# Altium footprint library Switching_Regulators_Pcb.PcbLib: 18 footprints (part 1 of 2)
Each footprint in its own frame and in the unit in brackets; x right, y up, seen from the top. Pads: shape width x height; smd on the part's side, far side on the other; paste and mask are expansions set on the pad; w line width, h text height; cw(c..) or ccw(c..) is an arc to the next point about the centre after c.
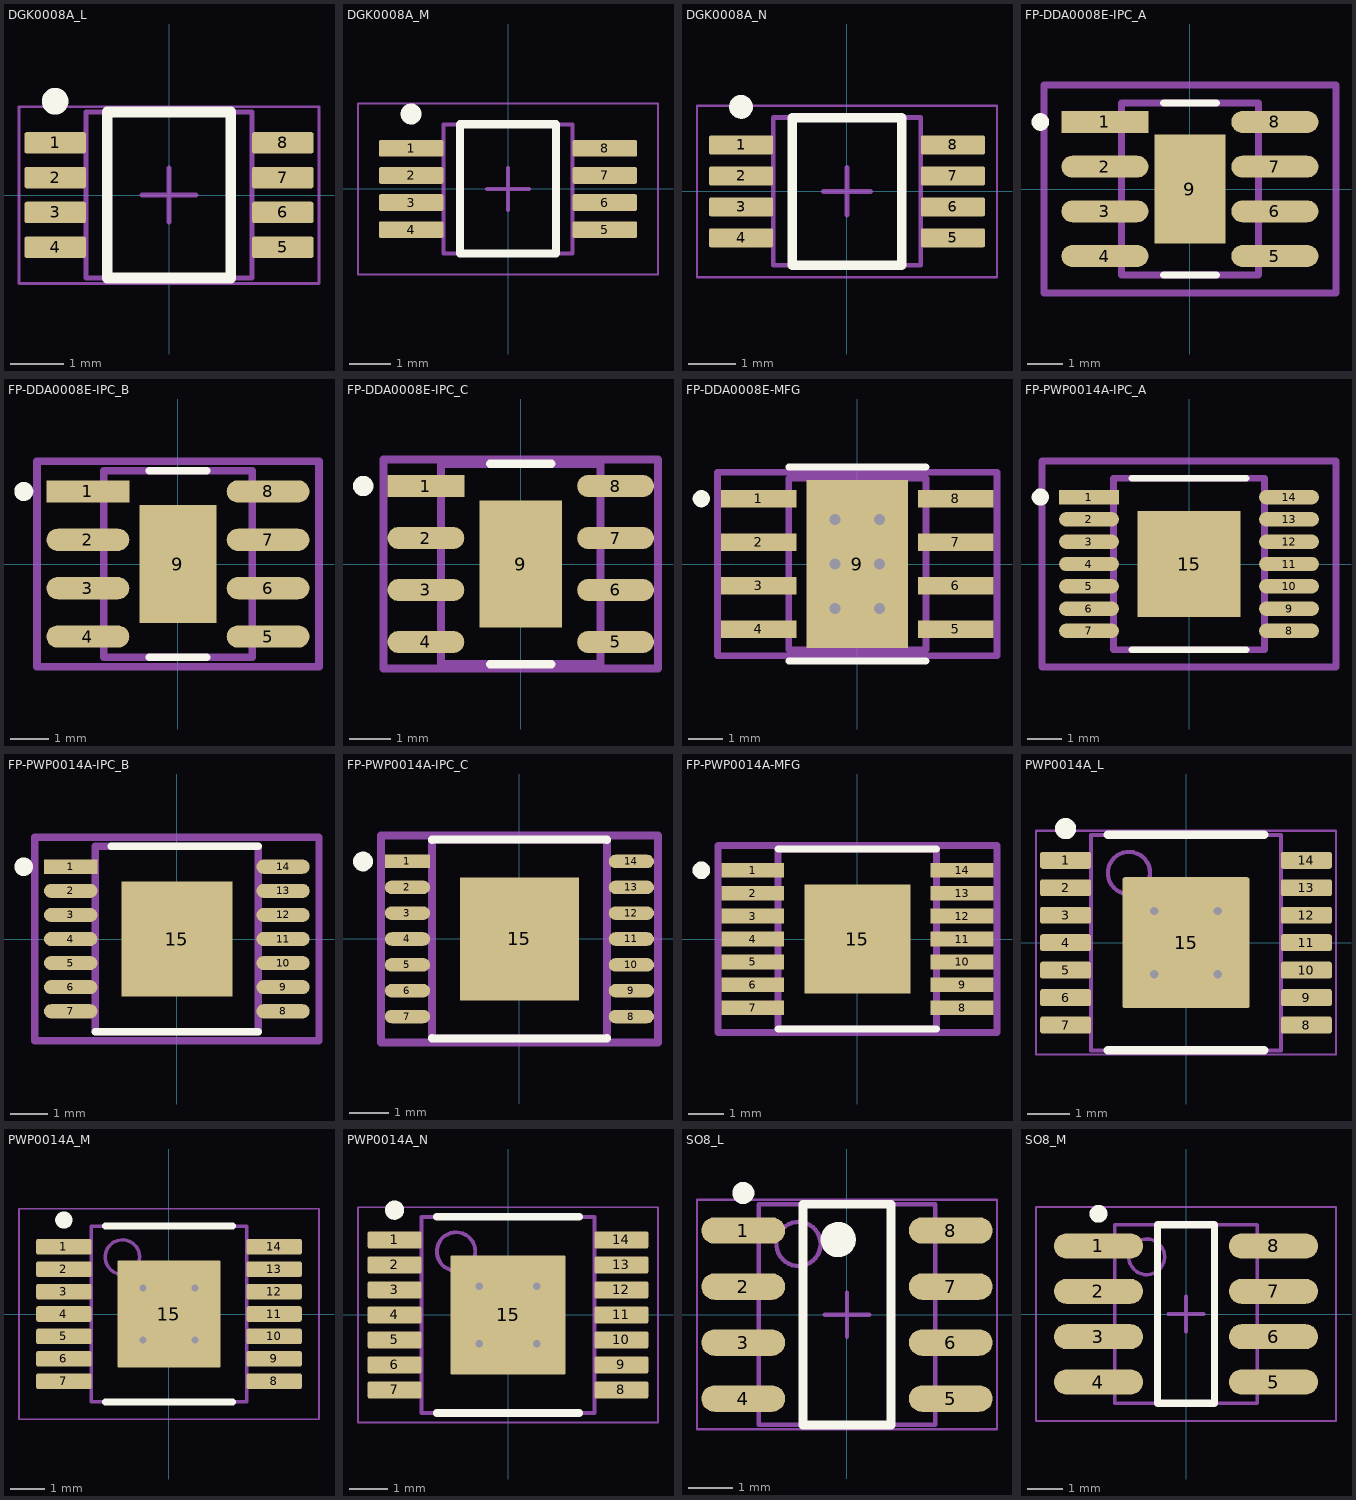
[diagram p0: the footprints below, top view; thin cyan lines are the x and y axes]

## DGK0008A_L [mm] "TSOP, 8-Leads, Body 3.1x3.1mm, Pitch 0.65mm, IPC High Density"
height 1.1
pads (8):
  rrect22% 1.15x0.4 smd: 1(-2.125,0.975) 2(-2.125,0.325) 3(-2.125,-0.325) 4(-2.125,-0.975) 5(2.125,-0.975) 6(2.125,-0.325) 7(2.125,0.325) 8(2.125,0.975)
Top Overlay:
  circle w0.25: c-2.125,1.75 r0.125
  lines w0.2: -1.15,-1.55 -1.15,1.55 1.15,1.55 1.15,-1.55 -1.15,-1.55
Mechanical 13:
  lines w0.1: -1.55,-1.55 -1.55,1.55 1.55,1.55 1.55,-1.55 -1.55,-1.55
  text ".Designator" at -1.5,-0.5 h1
Mechanical 15:
  lines w0.05: -2.8,-1.65 -2.8,1.65 2.8,1.65 2.8,-1.65 -2.8,-1.65
  lines w0.1: -0.5,0 0.5,0 ; 0,-0.5 0,0.5
3D body "MUY08A_ASM.stp": height 0.94, standoff -0.02, extent -2.451,-1.499 2.451,1.499

## DGK0008A_M [mm] "TSOP, 8-Leads, Body 3.1x3.1mm, Pitch 0.65mm, IPC Low Density"
height 1.1
pads (8):
  rrect22% 1.55x0.4 smd: 1(-2.325,0.975) 2(-2.325,0.325) 3(-2.325,-0.325) 4(-2.325,-0.975) 5(2.325,-0.975) 6(2.325,-0.325) 7(2.325,0.325) 8(2.325,0.975)
Top Overlay:
  circle w0.25: c-2.325,1.8 r0.125
  lines w0.2: -1.15,-1.55 1.15,-1.55 1.15,1.55 -1.15,1.55 -1.15,-1.55
Mechanical 13:
  lines w0.1: -1.55,-1.55 1.55,-1.55 1.55,1.55 -1.55,1.55 -1.55,-1.55
  text ".Designator" at -1.397,-0.254 h1
Mechanical 15:
  lines w0.05: -3.6,-2.05 3.6,-2.05 3.6,2.05 -3.6,2.05 -3.6,-2.05
  lines w0.1: -0.5,0 0.5,0 ; 0,-0.5 0,0.5
3D body "MUY08A_ASM.stp": height 0.94, standoff -0.02, extent -2.451,-1.499 2.451,1.499

## DGK0008A_N [mm] "TSOP, 8-Leads, Body 3.1x3.1mm, Pitch 0.65mm, IPC Medium Density"
height 1.1
pads (8):
  rrect22% 1.35x0.4 smd: 1(-2.225,0.975) 2(-2.225,0.325) 3(-2.225,-0.325) 4(-2.225,-0.975) 5(2.225,-0.975) 6(2.225,-0.325) 7(2.225,0.325) 8(2.225,0.975)
Top Overlay:
  circle w0.25: c-2.225,1.775 r0.125
  lines w0.2: -1.15,-1.55 -1.15,1.55 1.15,1.55 1.15,-1.55 -1.15,-1.55
Mechanical 13:
  lines w0.1: -1.55,-1.55 -1.55,1.55 1.55,1.55 1.55,-1.55 -1.55,-1.55
  text ".Designator" at -1.397,-0.254 h1
Mechanical 15:
  lines w0.05: -3.15,-1.8 -3.15,1.8 3.15,1.8 3.15,-1.8 -3.15,-1.8
  lines w0.1: -0.5,0 0.5,0 ; 0,-0.5 0,0.5
3D body "MUY08A_ASM.stp": height 0.94, standoff -0.02, extent -2.451,-1.499 2.451,1.499

## FP-DDA0008E-IPC_A [mm]
pads (9):
  rect 2.474x0.622 smd paste+0 mask+0: 1(-2.416,1.905)
  rrect100% 2.474x0.622 smd paste+0 mask+0: 2(-2.416,0.635) 3(-2.416,-0.635) 4(-2.416,-1.905) 5(2.416,-1.905) 6(2.416,-0.635) 7(2.416,0.635) 8(2.416,1.905)
  rect 2.025x3.1 smd paste-1000 mask+0: 9(0,0)
Top Overlay:
  circle w0.25: c-4.25,1.905 r0.125
  lines w0.2: -0.75,-2.45 0.75,-2.45 ; -0.75,2.45 0.75,2.45
Top Paste:
  rectangle: -0.568,-1.105 0.568,1.105
Mechanical 5:
  lines w0.2: -4.153,-2.95 -4.153,2.95 4.153,2.95 4.153,-2.95 -4.153,-2.95
  text ".Designator" at 0,-0.001 h1
Mechanical 13:
  lines w0.2: -1.95,-2.45 -1.95,2.45 1.95,2.45 1.95,-2.45 -1.95,-2.45
Mechanical 15:
  lines w0.2: -4.153,-2.95 -4.153,2.95 4.153,2.95 4.153,-2.95 -4.153,-2.95
Mechanical 16:
  lines w0.1: -0.5,0 0.5,0 -0.5,0 ; 0,-0.5 0,0.5 0,-0.5
3D body "IC_Texas_Instruments_LM5164DDAR_eec.STEP": height 0.25, standoff 0, extent -4.153,-2.95 4.153,2.95

## FP-DDA0008E-IPC_B [mm]
pads (9):
  rect 2.174x0.582 smd paste+0 mask+0: 1(-2.366,1.905)
  rrect100% 2.174x0.582 smd paste+0 mask+0: 2(-2.366,0.635) 3(-2.366,-0.635) 4(-2.366,-1.905) 5(2.366,-1.905) 6(2.366,-0.635) 7(2.366,0.635) 8(2.366,1.905)
  rect 2.025x3.1 smd paste-1000 mask+0: 9(0,0)
Top Overlay:
  circle w0.25: c-4.05,1.905 r0.125
  lines w0.2: -0.75,-2.45 0.75,-2.45 ; -0.75,2.45 0.75,2.45
Top Paste:
  rectangle: -0.568,-1.105 0.568,1.105
Mechanical 5:
  lines w0.2: -3.703,-2.7 3.703,-2.7 3.703,2.7 -3.703,2.7 -3.703,-2.7
  text ".Designator" at 0,-0.001 h1
Mechanical 13:
  lines w0.2: -1.95,-2.45 1.95,-2.45 1.95,2.45 -1.95,2.45 -1.95,-2.45
Mechanical 15:
  lines w0.2: -3.703,-2.7 3.703,-2.7 3.703,2.7 -3.703,2.7 -3.703,-2.7
Mechanical 16:
  lines w0.1: -0.5,0 0.5,0 -0.5,0 ; 0,-0.5 0,0.5 0,-0.5
3D body "IC_Texas_Instruments_LM5164DDAR_eec.STEP": height 0.25, standoff 0, extent -3.703,-2.7 3.703,2.7

## FP-DDA0008E-IPC_C [mm]
pads (9):
  rect 1.874x0.542 smd paste+0 mask+0: 1(-2.316,1.905)
  rrect100% 1.874x0.542 smd paste+0 mask+0: 2(-2.316,0.635) 3(-2.316,-0.635) 4(-2.316,-1.905) 5(2.316,-1.905) 6(2.316,-0.635) 7(2.316,0.635) 8(2.316,1.905)
  rect 2.025x3.1 smd paste-1000 mask+0: 9(0,0)
Top Overlay:
  circle w0.25: c-3.85,1.905 r0.125
  lines w0.2: -0.75,-2.45 0.75,-2.45 ; -0.75,2.45 0.75,2.45
Top Paste:
  rectangle: -0.568,-1.105 0.568,1.105
Mechanical 5:
  lines w0.2: -3.353,-2.55 3.353,-2.55 3.353,2.55 -3.353,2.55 -3.353,-2.55
  text ".Designator" at 0,-0.001 h1
Mechanical 13:
  lines w0.2: -1.95,-2.45 1.95,-2.45 1.95,2.45 -1.95,2.45 -1.95,-2.45
Mechanical 15:
  lines w0.2: -3.353,-2.55 3.353,-2.55 3.353,2.55 -3.353,2.55 -3.353,-2.55
Mechanical 16:
  lines w0.1: -0.5,0 0.5,0 -0.5,0 ; 0,-0.5 0,0.5 0,-0.5
3D body "IC_Texas_Instruments_LM5164DDAR_eec.STEP": height 0.25, standoff 0, extent -3.353,-2.55 3.353,2.55

## FP-DDA0008E-MFG [mm]
pads (9):
  rect 2.2x0.5 smd paste-1000 mask+0: 1(-2.875,1.905) 2(-2.875,0.635) 3(-2.875,-0.635) 4(-2.875,-1.905) 5(2.875,-1.905) 6(2.875,-0.635) 7(2.875,0.635) 8(2.875,1.905)
  rect 2.95x4.9 smd paste-1000 mask-1000: 9(0,0)
via -0.65,1.3 diameter 0.63 hole 0.33
via -0.65,0 diameter 0.63 hole 0.33
via -0.65,-1.3 diameter 0.63 hole 0.33
via 0.65,1.3 diameter 0.63 hole 0.33
via 0.65,0 diameter 0.63 hole 0.33
via 0.65,-1.3 diameter 0.63 hole 0.33
Top Overlay:
  circle w0.25: c-4.55,1.905 r0.125
  lines w0.2: -2,-2.825 2,-2.825 ; -2,2.825 2,2.825
Top Paste:
  rectangle: -1.2,-1.55 1.2,1.55
  rectangle: -3.95,1.68 -1.8,2.13
  rectangle: -3.95,0.41 -1.8,0.86
  rectangle: -3.95,-0.86 -1.8,-0.41
  rectangle: -3.95,-2.13 -1.8,-1.68
  rectangle: 1.8,1.68 3.95,2.13
  rectangle: 1.8,0.41 3.95,0.86
  rectangle: 1.8,-0.86 3.95,-0.41
  rectangle: 1.8,-2.13 3.95,-1.68
Top Solder:
  rectangle: -1.2,-1.55 1.2,1.55
Mechanical 5:
  lines w0.2: -4.075,-2.675 4.075,-2.675 4.075,2.675 -4.075,2.675 -4.075,-2.675
  text ".Designator" at 0,0.188 h1
Mechanical 13:
  lines w0.2: -2,-2.5 2,-2.5 2,2.5 -2,2.5 -2,-2.5
Mechanical 15:
  lines w0.2: -4.075,-2.675 4.075,-2.675 4.075,2.675 -4.075,2.675 -4.075,-2.675
3D body "IC_Texas_Instruments_TPS54360BQDDARQ1_eec.STEP": height 0.25, standoff 0, extent -4.075,-2.675 4.075,2.675

## FP-PWP0014A-IPC_A [mm]
pads (15):
  rect 1.74x0.421 smd paste+0 mask+0: 1(-2.916,1.95)
  rrect100% 1.74x0.421 smd paste+0 mask+0: 2(-2.916,1.3) 3(-2.916,0.65) 4(-2.916,0) 5(-2.916,-0.65) 6(-2.916,-1.3) 7(-2.916,-1.95) 8(2.916,-1.95) 9(2.916,-1.3) 10(2.916,-0.65) 11(2.916,0) 12(2.916,0.65) 13(2.916,1.3) 14(2.916,1.95)
  rect 3x3.1 smd paste-1000 mask+0: 15(0,0)
Top Overlay:
  circle w0.25: c-4.335,1.95 r0.125
  lines w0.2: -1.671,-2.5 1.671,-2.5 ; -1.671,2.5 1.671,2.5
Top Paste:
  rectangle: -0.94,-0.99 0.94,0.99
Mechanical 5:
  lines w0.2: -4.285,-3 4.285,-3 4.285,3 -4.285,3 -4.285,-3
  text ".Designator" at 0,-0.001 h1
Mechanical 13:
  lines w0.2: -2.2,-2.5 2.2,-2.5 2.2,2.5 -2.2,2.5 -2.2,-2.5
Mechanical 15:
  lines w0.2: -4.285,-3 4.285,-3 4.285,3 -4.285,3 -4.285,-3
Mechanical 16:
  lines w0.1: -0.5,0 0.5,0 ; 0,-0.5 0,0.5
3D body "IC_Texas_Instruments_LM5161PWPR_eec.STEP": height 0.25, standoff 0, extent -4.285,-3 4.285,3

## FP-PWP0014A-IPC_B [mm]
pads (15):
  rect 1.44x0.381 smd paste+0 mask+0: 1(-2.866,1.95)
  rrect100% 1.44x0.381 smd paste+0 mask+0: 2(-2.866,1.3) 3(-2.866,0.65) 4(-2.866,0) 5(-2.866,-0.65) 6(-2.866,-1.3) 7(-2.866,-1.95) 8(2.866,-1.95) 9(2.866,-1.3) 10(2.866,-0.65) 11(2.866,0) 12(2.866,0.65) 13(2.866,1.3) 14(2.866,1.95)
  rect 3x3.1 smd paste-1000 mask+0: 15(0,0)
Top Overlay:
  circle w0.25: c-4.135,1.95 r0.125
  lines w0.2: -2.2,-2.5 2.2,-2.5 ; -1.771,2.5 2.2,2.5
Top Paste:
  rectangle: -0.94,-0.99 0.94,0.99
Mechanical 5:
  lines w0.2: -3.835,-2.75 -3.835,2.75 3.835,2.75 3.835,-2.75 -3.835,-2.75
  text ".Designator" at 0,-0.001 h1
Mechanical 13:
  lines w0.2: -2.2,-2.5 -2.2,2.5 2.2,2.5 2.2,-2.5 -2.2,-2.5
Mechanical 15:
  lines w0.2: -3.835,-2.75 -3.835,2.75 3.835,2.75 3.835,-2.75 -3.835,-2.75
Mechanical 16:
  lines w0.1: -0.5,0 0.5,0 ; 0,-0.5 0,0.5
3D body "IC_Texas_Instruments_LM5161PWPR_eec.STEP": height 0.25, standoff 0, extent -3.835,-2.75 3.835,2.75

## FP-PWP0014A-IPC_C [mm]
pads (15):
  rect 1.14x0.341 smd paste+0 mask+0: 1(-2.816,1.95)
  rrect100% 1.14x0.341 smd paste+0 mask+0: 2(-2.816,1.3) 3(-2.816,0.65) 4(-2.816,0) 5(-2.816,-0.65) 6(-2.816,-1.3) 7(-2.816,-1.95) 8(2.816,-1.95) 9(2.816,-1.3) 10(2.816,-0.65) 11(2.816,0) 12(2.816,0.65) 13(2.816,1.3) 14(2.816,1.95)
  rect 3x3.1 smd paste-1000 mask+0: 15(0,0)
Top Overlay:
  circle w0.25: c-3.935,1.95 r0.125
  lines w0.2: -2.2,-2.495 -2.2,-2.5 2.2,-2.5 2.2,-2.495 ; -2.2,2.495 -2.2,2.5 2.2,2.5 2.2,2.495
Top Paste:
  rectangle: -0.94,-0.99 0.94,0.99
Mechanical 5:
  lines w0.2: -3.485,-2.6 -3.485,2.6 3.485,2.6 3.485,-2.6 -3.485,-2.6
  text ".Designator" at 0,-0.001 h1
Mechanical 13:
  lines w0.2: -2.2,-2.5 -2.2,2.5 2.2,2.5 2.2,-2.5 -2.2,-2.5
Mechanical 15:
  lines w0.2: -3.485,-2.6 -3.485,2.6 3.485,2.6 3.485,-2.6 -3.485,-2.6
Mechanical 16:
  lines w0.1: -0.5,0 0.5,0 ; 0,-0.5 0,0.5
3D body "IC_Texas_Instruments_LM5161PWPR_eec.STEP": height 0.25, standoff 0, extent -3.485,-2.6 3.485,2.6

## FP-PWP0014A-MFG [mm]
pads (15):
  rect 1.78x0.42 smd paste+0 mask+0: 1(-2.97,1.95) 2(-2.97,1.3) 3(-2.97,0.65) 4(-2.97,0) 5(-2.97,-0.65) 6(-2.97,-1.3) 7(-2.97,-1.95) 8(2.97,-1.95) 9(2.97,-1.3) 10(2.97,-0.65) 11(2.97,0) 12(2.97,0.65) 13(2.97,1.3) 14(2.97,1.95)
  rect 3x3.1 smd paste+0 mask+0: 15(0,0)
Top Overlay:
  circle w0.25: c-4.425,1.95 r0.125
  lines w0.2: -2.25,-2.55 2.25,-2.55 ; -2.25,2.55 2.25,2.55
Mechanical 5:
  lines w0.2: -3.96,-2.65 3.96,-2.65 3.96,2.65 -3.96,2.65 -3.96,-2.65
  text ".Designator" at 0,0.188 h1
Mechanical 13:
  lines w0.2: -2.25,-2.55 2.25,-2.55 2.25,2.55 -2.25,2.55 -2.25,-2.55
Mechanical 15:
  lines w0.2: -3.96,-2.65 3.96,-2.65 3.96,2.65 -3.96,2.65 -3.96,-2.65
Mechanical 16:
  lines w0.1: -0.5,0 0.5,0 ; 0,-0.5 0,0.5
3D body "IC_Texas_Instruments_LM5161PWPR_eec.STEP": height 0.25, standoff 0, extent -3.96,-2.65 3.96,2.65

## PWP0014A_L [mm] "SOP, 14-Leads, Body 5.1x4.5mm, Pitch 0.65mm, Thermal Pad 3x3.1mm, IPC High Density"
height 1.2
pads (15):
  rrect25% 1.2x0.4 smd: 1(-2.85,1.95) 2(-2.85,1.3) 3(-2.85,0.65) 4(-2.85,0) 5(-2.85,-0.65) 6(-2.85,-1.3) 7(-2.85,-1.95) 8(2.85,-1.95) 9(2.85,-1.3) 10(2.85,-0.65) 11(2.85,0) 12(2.85,0.65) 13(2.85,1.3) 14(2.85,1.95)
  rrect3% 3x3.1 smd: 15(0,0)
via -0.75,0.75 diameter 0.4 hole 0.2
via 0.75,0.75 diameter 0.4 hole 0.2
via 0.75,-0.75 diameter 0.4 hole 0.2
via -0.75,-0.75 diameter 0.4 hole 0.2
Top Overlay:
  circle w0.25: c-2.85,2.7 r0.125
  lines w0.2: -1.85,-2.55 1.85,-2.55 ; -1.85,2.55 1.85,2.55
Mechanical 1:
  text ".Designator" at -1.524,-0.508 h1.02
Mechanical 13:
  circle w0.1: c-1.35,1.65 r0.5
  lines w0.1: -2.25,-2.55 2.25,-2.55 2.25,2.55 -2.25,2.55 -2.25,-2.55
Mechanical 15:
  lines w0.05: -3.55,-2.65 3.55,-2.65 3.55,2.65 -3.55,2.65 -3.55,-2.65
  lines w0.1: -0.5,0 0.5,0 ; 0,-0.5 0,0.5
3D body "PWP0014A.stp": height 1, standoff 0, extent -3.209,-2.5 3.209,2.5

## PWP0014A_M [mm] "SOP, 14-Leads, Body 5.1x4.5mm, Pitch 0.65mm, Thermal Pad 3x3.1mm, IPC Low Density"
height 1.2
pads (15):
  rrect22% 1.6x0.45 smd: 1(-3.05,1.95) 2(-3.05,1.3) 3(-3.05,0.65) 4(-3.05,0) 5(-3.05,-0.65) 6(-3.05,-1.3) 7(-3.05,-1.95) 8(3.05,-1.95) 9(3.05,-1.3) 10(3.05,-0.65) 11(3.05,0) 12(3.05,0.65) 13(3.05,1.3) 14(3.05,1.95)
  rrect3% 3x3.1 smd: 15(0,0)
via -0.75,0.75 diameter 0.4 hole 0.2
via 0.75,0.75 diameter 0.4 hole 0.2
via 0.75,-0.75 diameter 0.4 hole 0.2
via -0.75,-0.75 diameter 0.4 hole 0.2
Top Overlay:
  circle w0.25: c-3.05,2.725 r0.125
  lines w0.2: -1.85,-2.55 1.85,-2.55 ; -1.85,2.55 1.85,2.55
Mechanical 1:
  text ".Designator" at -1.524,-0.508 h1.02
Mechanical 13:
  circle w0.1: c-1.35,1.65 r0.5
  lines w0.1: -2.25,-2.55 2.25,-2.55 2.25,2.55 -2.25,2.55 -2.25,-2.55
Mechanical 15:
  lines w0.05: -4.35,-3.05 4.35,-3.05 4.35,3.05 -4.35,3.05 -4.35,-3.05
  lines w0.1: -0.5,0 0.5,0 ; 0,-0.5 0,0.5
3D body "PWP0014A.stp": height 1, standoff 0, extent -3.209,-2.5 3.209,2.5

## PWP0014A_N [mm] "SOP, 14-Leads, Body 5.1x4.5mm, Pitch 0.65mm, Thermal Pad 3x3.1mm, IPC Medium Density"
height 1.2
pads (15):
  rrect22% 1.4x0.45 smd: 1(-2.95,1.95) 2(-2.95,1.3) 3(-2.95,0.65) 4(-2.95,0) 5(-2.95,-0.65) 6(-2.95,-1.3) 7(-2.95,-1.95) 8(2.95,-1.95) 9(2.95,-1.3) 10(2.95,-0.65) 11(2.95,0) 12(2.95,0.65) 13(2.95,1.3) 14(2.95,1.95)
  rrect3% 3x3.1 smd: 15(0,0)
via -0.75,-0.75 diameter 0.4 hole 0.2
via 0.75,-0.75 diameter 0.4 hole 0.2
via 0.75,0.75 diameter 0.4 hole 0.2
via -0.75,0.75 diameter 0.4 hole 0.2
Top Overlay:
  circle w0.25: c-2.95,2.725 r0.125
  lines w0.2: -1.85,-2.55 1.85,-2.55 ; -1.85,2.55 1.85,2.55
Mechanical 1:
  text ".Designator" at -1.524,-0.508 h1.02
Mechanical 13:
  circle w0.1: c-1.35,1.65 r0.5
  lines w0.1: -2.25,-2.55 -2.25,2.55 2.25,2.55 2.25,-2.55 -2.25,-2.55
Mechanical 15:
  lines w0.05: -3.9,-2.8 -3.9,2.8 3.9,2.8 3.9,-2.8 -3.9,-2.8
  lines w0.1: -0.5,0 0.5,0 ; 0,-0.5 0,0.5
3D body "PWP0014A.stp": height 1, standoff 0, extent -3.209,-2.5 3.209,2.5

## SO8_L [mm] "SOIC, 8-Leads, Body 4.9x3.9mm, Pitch 1.27mm, IPC High Density"
height 1.75
pads (8):
  oval 1.9x0.6 smd: 1(-2.35,1.905) 2(-2.35,0.635) 3(-2.35,-0.635) 4(-2.35,-1.905) 5(2.35,-1.905) 6(2.35,-0.635) 7(2.35,0.635) 8(2.35,1.905)
Top Overlay:
  circle w0.4: c-0.2,1.7 r0.2
  circle w0.25: c-2.35,2.755 r0.125
  lines w0.2: -1,-2.5 1,-2.5 1,2.5 -1,2.5 -1,-2.5
Mechanical 13:
  circle w0.1: c-1.1,1.6 r0.5
  lines w0.1: -2,-2.5 2,-2.5 2,2.5 -2,2.5 -2,-2.5
Mechanical 15:
  lines w0.05: -3.4,-2.6 3.4,-2.6 3.4,2.6 -3.4,2.6 -3.4,-2.6
  lines w0.1: -0.5,0 0.5,0 ; 0,-0.5 0,0.5
3D body "SO-8N.STEP": height 1.63, standoff 0.01, extent -3,-2.46 3,2.46

## SO8_M [mm] "SOIC, 8-Leads, Body 4.9x3.9mm, Pitch 1.27mm, IPC Low Density"
height 1.75
pads (8):
  oval 2.5x0.7 smd: 1(-2.45,1.905) 2(-2.45,0.635) 3(-2.45,-0.635) 4(-2.45,-1.905) 5(2.45,-1.905) 6(2.45,-0.635) 7(2.45,0.635) 8(2.45,1.905)
Top Overlay:
  circle w0.25: c-2.45,2.805 r0.125
  lines w0.2: -0.8,-2.5 -0.8,2.5 0.8,2.5 0.8,-2.5 -0.8,-2.5
Mechanical 13:
  circle w0.1: c-1.1,1.6 r0.5
  lines w0.1: -2,-2.5 -2,2.5 2,2.5 2,-2.5 -2,-2.5
Mechanical 15:
  lines w0.05: -4.2,-3 -4.2,3 4.2,3 4.2,-3 -4.2,-3
  lines w0.1: -0.5,0 0.5,0 ; 0,-0.5 0,0.5
3D body "SO-8N.STEP": height 1.63, standoff 0.01, extent -3,-2.46 3,2.46